# Altium schematic symbol library Schlib.SchLib: 45 symbols
Pins are listed as number, name and electrical type; pins without a type are passive.

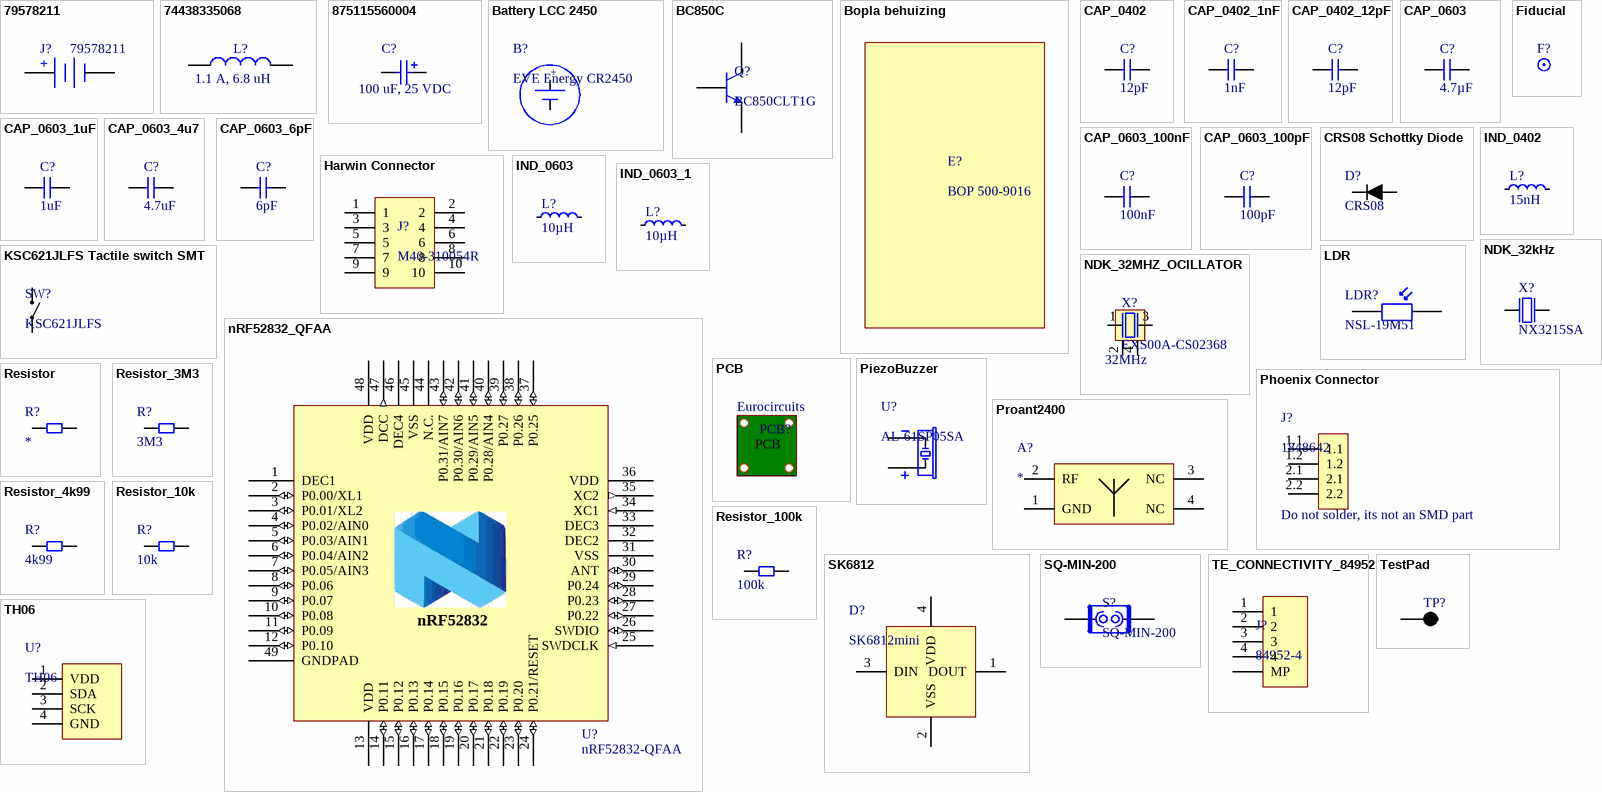
[diagram p0: symbols 79578211 to TH06]

## 79578211
designator J?
Battery Holder WA-BCPH, Battery Type: 2450p; BatteryType: 2450; Sponsor: Wurth Elektronik; PublishedDate: Nov. 2016; Publisher: Wurth Elektronik; ComponentLink1Description: Manufacturer; ComponentLink1URL: http://www.we-online.de; ComponentLink2Description: Datasheet; ComponentLink2URL: http://katalog.we-online.de/em/datasheet/79578211.pdf; Manufacturer Part Number: 79578211; value: 79578211; Manufacturer: Wurth Elektronik
footprint 79578211 (Battery Holder)
pins: 1 Pos, 2 Neg
text: +

## 74438335068
designator L?, comment 1.1 A, 6.8 uH
WE-MAPI SMD Shielded Power Inductor, size 3015, 1.1 A, 6.8 uH; Manufacturer Part Number: 74438335068; Manufacturer: Wurth Elektronik; Rated Current: 1.1 A; Inductance: 6.8 uH; DC Resistance max.: 287 mOhm; ComponentLink1Description: Manufacturer; ComponentLink1URL: http://www.we-online.de; ComponentLink2Description: Datasheet; ComponentLink2URL: http://katalog.we-online.de/pbs/datasheet/74438335068.pdf; Published Date: Nov. 2017; Publisher: Wurth Elektronik; Size: 3015; Operating Temperature: -40 to 125 degC
footprint WE-MAPI_3015
pins: 1, 2

## 875115560004
designator C?, comment 100 uF, 25 VDC
WCAP-PSHP Aluminum Polymer Capacitors, D10mm x L8.7mm, 100 uF, 25 VDC; Manufacturer Part Number: 875115560004; Manufacturer: Wurth Elektronik; Rated Voltage: 25 VDC; Capacitance: 100 uF; Value: 100uF; ComponentLink1Description: Manufacturer; ComponentLink1URL: http://www.we-online.de; ComponentLink2Description: Datasheet; ComponentLink2URL: http://katalog.we-online.de/pbs/datasheet/875115560004.pdf; Published Date: Dec. 2017; Publisher: Wurth Elektronik; Size: D10mm x L8.7mm; Life Cycle: 2000 h; Operating Temperature: -55 to +105 degC; Sponsor: Wurth Elektronik
footprint WCAP-PSHP_D10mm x L8.7mm
pins: 1 P, 2 N

## Battery LCC 2450
designator B?, comment EVE Energy CR2450
CR2450 Coin cell battery; Sponsor: Elincom electronics; Value: EVE Energy CR2450; Manufacturer: Eve Energy; Package: CR2450
text: +

## BC850C
designator Q?, comment BC850CLT1G
NPN general purpose transistor; Manufacturer: On Semiconductor; Manufacturer Part Number: NSVBC850CLT1G; value: BC850CLT1G; Supplier 1: Mouser; Supplier Part Number 1: 863-NSVBC850CLT1G; Sponsor: *
footprint SOT23 (3 Terminal surface mount package)
pins: 1, 2, 3

## Bopla behuizing
designator E?, comment BOP 500-9016  (mechanical)
Bopla ABS enclosure; Sponsor: PM Komponenten; Manufacturer: Bopla; Value: BOP 500-9016; Supplier 1: *; Supplier Part Number 1: *; Manufacturer Part Number: BOP 500-9016

## CAP_0402
designator C?, comment 12pF
Capacitor, NP0, ±2%; Part Number: C0402-12p; Note: 50V; Artikkelnr Noca: 20029159; Artikkelnr Simpro: N.A.; Manufacturer: *; Manufacturer Part Number: *; Datasheet: *; LatestRevisionDate: 2011-05-11; Pin Count: 2; Publisher: Nordic Semiconductor; Published: 2009-05-08; Value: 12pF; Supplier: *; Supplier part number: *; 2nd source Supplier: *; 2nd source part number: *; Footprint Doc: 0402
footprint CAPC1005X04L
pins: 1, 2

## CAP_0402_1nF
designator C?, comment 1nF
Capacitor 1nF 0402; Manufacturer: Murata; Manufacturer Part Number: GCM188R72A102KA37D; Sponsor: Nijkerk Electronics; Pin Count: 2; Value: 1nF
footprint CAP0402_GCx18_Murata (Murata GCx18 0402)
pins: 1, 2

## CAP_0402_12pF
designator C?, comment 12pF
Capacitor NP0 0402; Manufacturer: Murata; Manufacturer Part Number: GCM1555C1H120JA16D; Sponsor: Nijkerk Electronics; Pin Count: 2; Value: 12pF
footprint CAP0402_GCx15_Murata (Murata GCx15 0402)
pins: 1, 2

## CAP_0603
designator C?, comment 4.7µF
Capacitor, X5R, ±10%; Part Number: C0603-4µ7; Note: 6.3V; Artikkelnr Noca: 20069060; Artikkelnr Simpro: N.A.; Manufacturer: *; Manufacturer Part Number: *; Datasheet: *; LatestRevisionDate: 2009-11-23; Pin Count: 2; Publisher: Nordic Semiconductor; Published: 2009-05-08; Value: 4.7µF; Supplier: *; Supplier part number: *; 2nd source Supplier: *; 2nd source part number: *; Footprint Doc: 0603
footprint CAPC1608X06L
pins: 1, 2

## CAP_0603_1uF
designator C?, comment 1uF
Capacitor 1uF X5R 0603 Murata; Manufacturer Part Number: GRM188R61E105KA12D; Sponsor: Nijkerk Electronics; Manufacturer: Murata; Pin Count: 2; Value: 1uF
footprint CAP0603_GR18_MURATA (CAP GRM18 Murata 0603)
pins: 1, 2

## CAP_0603_4u7
designator C?, comment 4.7uF
Capacitor X5R 0603 Murata; Manufacturer Part Number: GRM188R60J475KE19D; Sponsor: Nijkerk Electronics; Manufacturer: Murata; Pin Count: 2; Value: 4.7uF
footprint CAP0603_GR18_MURATA (CAP GRM18 Murata 0603)
pins: 1, 2

## CAP_0603_6pF
designator C?, comment 6pF
Capacitor NP0 0603 50V; Part Number: GCM1885C1H6R0CA16D; Manufacturer: Murata; Sponsor: Nijkerk Electronics; Manufacturer Part Number: GCM1885C1H6R0CA16D; Pin Count: 2; Value: 6pF
footprint CAP0603_GCx18_MURATA (CAP GCx18 Murata 0603)
pins: 1, 2

## CAP_0603_100nF
designator C?, comment 100nF
Capacitor 0603 100nF; Manufacturer: Murata; Manufacturer Part Number: GCJ188R71C104KA01D; Sponsor: Nijkerk Electronics; Pin Count: 2; Value: 100nF
footprint CAP0603_GCx18_MURATA (CAP GCx18 Murata 0603)
pins: 1, 2

## CAP_0603_100pF
designator C?, comment 100pF
Capacitor 100pF 0603 NP0; Manufacturer: Murata; Manufacturer Part Number: GCM1885C1H101JA16D; Sponsor: Nijkerk Electronics; Pin Count: 2; Value: 100pF
footprint CAP0603_GCx18_MURATA (CAP GCx18 Murata 0603)
pins: 1, 2

## CRS08 Schottky Diode
designator D?, comment CRS08
CRS08 Schottky Diode; Manufacturer: Tohsiba; value: CRS08; Manufacturer Part Number: CRS08; Supplier Part Number 1: 757-CRS08(TE85R,Q,M); Supplier 1: Mouser
footprint SOD-123F (Schottky Diode)
pins: A, C

## Fiducial
designator F?  (value not drawn)  (no BOM)
value: Fiducial
footprint Fiducial (Fiducial Eurocircuits)

## Harwin Connector
designator J?, comment M40-310054R
Harwin connector 2Rows x 6 contacts M40-3100545R; Sponsor: Phoenix contacts?; value: M40-310054R; manufacturer: Harwin; Supplier 1: Mouser; Supplier Part Number 1: 855-M40-3100545R; Manufacturer Part Number: M40-310054R
footprint Harwin connector (Harwin 2 Rows x 6 Contacts 1mm pitch)
pins: 1, 2, 3, 4, 5, 6, 7, 8, 9, 10

## IND_0402
designator L?, comment 15nH
High frequency chip inductor ±10%; Part Number: L0402-15n; Manufacturer: Taiyo Yuden; Manufacturer Part Number: HK100515NJ-T; 2nd source part number: 658-1328; Artikkelnr Noca: 33029323; Artikkelnr Simpro: N.A.; LatestRevisionDate: 2012-09-19; Pin Count: 2; Publisher: Nordic Semiconductor; Published: 2010-07-12; Value: 15nH; Note: High frequency chip inductor ±10%; Supplier: Digi-Key; Datasheet: http://www.yuden.co.jp/productdata/catalog/en/mlci04_e.pdf; Supplier part number: 587-1521-1-ND; 2nd source Supplier: Farnell; Footprint Doc: 0402
footprint INDC1005X04L
pins: 1, 2

## IND_0603
designator L?, comment 10µH
Chip inductor, IDC,min = 50 mA, ±20%; Part Number: L0603-10µ; Manufacturer: Taiyo Yuden; Manufacturer Part Number: LBMF1608T100K; 2nd source part number: 178-6105; Note: LBMF1608T100K 10µH 80mA 0603; Artikkelnr Noca: 33029314; Artikkelnr Simpro: N.A.; Datasheet: http://www.yuden.co.jp/ut/product/pdf/elb2_e.pdf; LatestRevisionDate: 2012-09-19; Pin Count: 2; Publisher: Nordic Semiconductor; Published: 2010-02-24; Value: 10µH; Supplier: Digi-Key; Supplier part number: 587-1714-1-ND; 2nd source Supplier: Farnell; Footprint Doc: 0603
footprint INDC1608X06L
pins: 1, 2

## IND_0603_1
designator L?, comment 10µH
Chip inductor, IDC,min = 50 mA, ±20%; Part Number: L0603-10µ; Manufacturer: Taiyo Yuden; Manufacturer Part Number: LBMF1608T100K; 2nd source part number: 178-6105; Note: LBMF1608T100K 10µH 80mA 0603; Artikkelnr Noca: 33029314; Artikkelnr Simpro: N.A.; Datasheet: http://www.yuden.co.jp/ut/product/pdf/elb2_e.pdf; LatestRevisionDate: 2012-09-19; Pin Count: 2; Publisher: Nordic Semiconductor; Published: 2010-02-24; Value: 10µH; Supplier: Digi-Key; Supplier part number: 587-1714-1-ND; 2nd source Supplier: Farnell; Footprint Doc: 0603
footprint INDC1608X06L
pins: 1, 2

## KSC621JLFS Tactile switch SMT
designator SW?, comment KSC621JLFS
Tactile switch SMT; Manufacturer: C & K Components; Value: KSC621JLFS; Manufacturer Part Number: KSC621JLFS; Sponsor: *; Remark: *; Supplier 1: Farnell; Supplier Part Number 1: 2320054
footprint KSC621JLFS (KSC621JLFS Sealed Tactile Switch SMT)
pins: 1, 2, 3, 4

## LDR
designator LDR?, comment NSL-19M51
Light Dependant Resistor Phot; Manufacturer: Luna Optoelectronics; value: NSL-19M51; Supplier 1: Farnell; Supplier 2: Digi-Key; Supplier Part Number 1: 3168335; Supplier Part Number 2: NSL-19M51-ND; Manufacturer Part Number: NSL-19M51; Sponsor: *
footprint LDR (LDR THT footprint)
pins: 1, 2

## NDK_32kHz
designator X?, comment NX3215SA
XTAL SMD 3215, 32.768kHz, Cl=9pF, Total Tol: ±50ppm; Part Number: XTAL_FC-135 32.768k; Manufacturer: NDK; Manufacturer Part Number: NX3215SA 32.768KHz EXS00A-MU00376; Note: XTAL SMD 32.768kHz, 3215; Frequency: 32kHz; Pin Count: 2; Value: NX3215SA; Sponsor: NDK; Supplier 1: Digi-Key; Supplier Part Number 1: 644-1171-1-ND
footprint XTAL_3215
pins: 1 inp, 2 out

## NDK_32MHZ_OCILLATOR
designator X?, comment EXS00A-CS02368  Frequency: 32MHz
NDK  NX3225SA 32MHz Oscillator; Note: XTAL SMD 32.000MHz; Manufacturer: NDK; Manufacturer Part Number: NX3225SA; Pin Count: 4; Value: EXS00A-CS02368; Footprint Doc: XTAL_2016; Sponsor: NDK; Supplier 1: Digi-Key; Supplier Part Number 1: 644-1208-1-ND
footprint NDK-32MHz-XTAL (NDK NX3225SA)
pins: 1 inp, 2 GND, 3 out, 4 GND

## nRF52832_QFAA
designator U?, comment nRF52832-QFAA
Multi-protocol Bluetooth Low Energy, ANT and 2.4GHz proprietary system-on-chip; Manufacturer: Nordic Semiconductor; Part Number: nRF52832-QFAA; Manufacturer Part Number: nRF52832-QFAA; LatestRevisionDate: 2014-11-26; Pin Count: 48; Publisher: Nordic Semiconductor; Published: 2014-11-26; Value: nRF52832-QFAA; Supplier part number: nRF52832-QFAA; Footprint Doc: QFN-48; Remark: *; Supplier: Nordic Semiconductor; Sponsor: Nordic Semiconductor
footprint QFN40P600X600X90-48N
pins: 1 DEC1 (power), 2 P0.00/XL1 (io), 3 P0.01/XL2 (io), 4 P0.02/AIN0 (io), 5 P0.03/AIN1 (io), 6 P0.04/AIN2 (io), 7 P0.05/AIN3 (io), 8 P0.06 (io), 9 P0.07 (io), 10 P0.08 (io), 11 P0.09 (io), 12 P0.10 (io), 13 VDD (power), 14 P0.11 (io), 15 P0.12 (io), 16 P0.13 (io), 17 P0.14 (io), 18 P0.15 (io), 19 P0.16 (io), 20 P0.17 (io), 21 P0.18 (io), 22 P0.19 (io), 23 P0.20 (io), 24 P0.21/RESET (io), 25 SWDCLK (in), 26 SWDIO (io), 27 P0.22 (io), 28 P0.23 (io), 29 P0.24 (io), 30 ANT (io), 31 VSS (power), 32 DEC2 (power), 33 DEC3 (power), 34 XC1 (in), 35 XC2 (out), 36 VDD (power), 37 P0.25 (io), 38 P0.26 (io), 39 P0.27 (io), 40 P0.28/AIN4 (io), 41 P0.29/AIN5 (io), 42 P0.30/AIN6 (io), 43 P0.31/AIN7 (io), 44 N.C. (power), 45 VSS (power), 46 DEC4 (power), 47 DCC (out), 48 VDD (power), 49 GNDPAD (power)
text: nRF52832

## PCB
designator PCB?  (value not drawn)  (mechanical)
Eurocircuits; Sponsor: Eurocircuits

## Phoenix Connector
designator J?, comment 1848642  Remark: Do not solder, its not an SMD part
Plug component, Push-in spring connection; Manufacturer: Phoenix Contact; value: 1848642; Supplier 1: Digi-Key; Supplier 2: Mouser; Supplier Part Number 1: 277-12224-ND; Supplier Part Number 2: 651-1848642; Manufacturer Part Number: 1848642
footprint Phoenix 1848642 (Phoenix Contact plug in connector)
footprint Phoenix 1848642 without 3D model (Phoenix Contact plug in connector)
pins: 1.1, 1.2, 2.1, 2.2

## PiezoBuzzer
designator U?, comment AL-61SP05SA
Piezo Buzzer; Manufacturer: EKULIT; Sponsor: Elincom Electronics; Value: AL-61SP05SA; Manufacturer Part Number: AL-61SP05SA
footprint Buzzer - AL-61SP05SA (KXG1205 buzzer footprint)
pins: 1, 2

## Proant2400
designator A?
Onboard SMD 2400 MHz Antenna for BLE, WLAN/Wifi; Manufacturer: Proant; Manufacturer Part Number: PRO-OB-440; value: Proant2400; Supplier 1: Digi-Key; Supplier 2: Digi-Key; Supplier Part Number 1: 1532-1001-6-ND; Supplier Part Number 2: 1532-1001-2-ND
footprint Proant2400 (Proant 2400, 2.4GHz antenna)
pins: 1 GND, 2 RF, 3 NC, 4 NC

## Resistor
designator R?
SMD Resistor; Value: *; Manufacturer: *; Manufacturer Part Number: *; Supplier 1: *; Supplier Part Number 1: *; Sponsor: *; Remark: *
footprint RES0603VISHAY (Chip Resistor, 2-Leads, Vishay 0603INCH)
pins: 1, 2

## Resistor_3M3
designator R?, comment 3M3
SMD Resistor 3M3 0603; Manufacturer: Vishay; Manufacturer Part Number: CRCW06033M30FKTABC; Sponsor: MyProto - DVC; Value: 3M3; Supplier 1: *; Supplier Part Number 1: *; Remark: *
footprint RES0603VISHAY (Chip Resistor, 2-Leads, Vishay 0603INCH)
pins: 1, 2

## Resistor_4k99
designator R?, comment 4k99
SMD Resistor 4k99 0603; Manufacturer: Vishay; Manufacturer Part Number: CRCW06034K99FKTABC; Sponsor: MyProto - DVC; Value: 4k99; Supplier 1: *; Supplier Part Number 1: *; Remark: *
footprint RES0603VISHAY (Chip Resistor, 2-Leads, Vishay 0603INCH)
pins: 1, 2

## Resistor_10k
designator R?, comment 10k
SMD Resistor 10k 0603; Manufacturer: Vishay; Manufacturer Part Number: CRCW060310K0FKTABC; Sponsor: MyProto - DVC; Value: 10k; Supplier 1: *; Supplier Part Number 1: *; Remark: *
footprint RES0603VISHAY (Chip Resistor, 2-Leads, Vishay 0603INCH)
pins: 1, 2

## Resistor_100k
designator R?, comment 100k
SMD Resistor 100k 0603; Manufacturer: Vishay; Manufacturer Part Number: CRCW0603100KFKTABC; Sponsor: MyProto - DVC; Value: 100k; Supplier 1: *; Supplier Part Number 1: *; Remark: *
footprint RES0603VISHAY (Chip Resistor, 2-Leads, Vishay 0603INCH)
pins: 1, 2

## SK6812
designator D?, comment SK6812mini
RGB LED with integrated controller; Manufacturer: Dongguang opsco optoelectronics CO. LTD; value: SK6812mini; Manufacturer Part Number: *; Sponsor: *
footprint SK6812mini (SK6812mini RGB LED)
pins: 1 DOUT, 2 VSS, 3 DIN, 4 VDD

## SQ-MIN-200
designator S?
Nano Power Tilt and Vibration sensor; Manufacturer: SignalQuest; Sponsor: Ideetron; value: SQ-MIN-200; Manufacturer Part Number: SQ-MIN-200
footprint SQ-SEN-200 (Nano power Tilt and Vibration Sensor)
pins: 1, 2

## TE_CONNECTIVITY_84952
designator J?, comment 84952-4
SMT ZIF connector 4; Manufacturer: TE Connectivity; Value: 84952-4; Manufacturer Part Number: 84952-4; Sponsor: *; Remark: *; Supplier 1: Farnell; Supplier Part Number 1: 1245267
footprint 84952-4 (84952-4 SMD ZIF connector)
pins: 1, 2, 3, 4, MP

## TestPad
designator TP?, comment testpad  (value not drawn)  (no BOM)
Signal probe pad; value: testpad
footprint TestPad (TestPad 1.2mm)
pins: 1

## TH06
designator U?
I2C Humidity and Temperature Sensor module; Manufacturer: HopeRF; value: TH06; supplier: Ideetron; Manufacturer Part Number: TH06
footprint TH06_module (TH06 Humidity and Temperature Module)
pins: 1 VDD, 2 SDA, 3 SCK, 4 GND

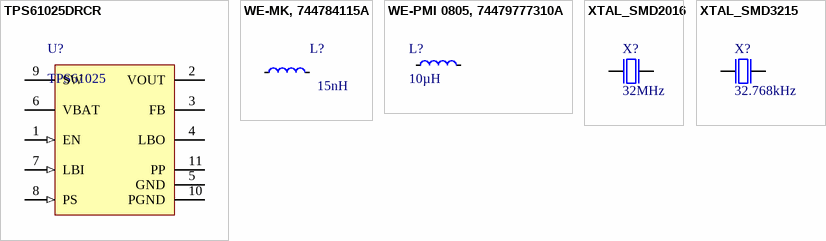
[diagram p1: symbols TPS61025DRCR to XTAL_SMD3215]

## TPS61025DRCR
designator U?, comment TPS61025
Boost Voltage Converter with 0.9 to 6.5 V Input, -40 to 85 degC, 10-Pin SON (DRC), Green (RoHS & no Sb/Br); Manufacturer: Texas Instruments; Manufacturer Part Number: TPS61025DRCR; Preset Vout(V): 3.3; Regulated Outputs(#): 1; SubFamily: Step-Up Regulator; Switching Frequency(Max)(kHz): 720; Synchronous Rectification: TRUE; Vin(Max)(V): 6.5; Vin(Min)(V): 0.9; DatasheetVersion: SLVS451F; PackageVersion: revL, Sep-2011; PackageReference: DRC10-2400X1650TP; PackageDescription: 10-Pin Plastic Small Outline No-Lead, 3 x 3 x 1 mm Body, 0.5 mm Pitch, Exposed Pad; Supplier 1: Digi-Key; Supplier Part Number 1: 296-15844-2-ND; Supplier 2: Digi-Key; Supplier Part Number 2: 296-15844-1-ND; Supplier 3: Digi-Key; Supplier Part Number 3: 296-15844-6-ND; Supplier 4: Farnell; Supplier Part Number 4: 1703402; Supplier 5: Newark; Supplier Part Number 5: 87H2896; Supplier 6: Mouser; Supplier Part Number 6: 595-TPS61025DRCR; Eco-Plan: Green (RoHS & no Sb/Br); Topology: Boost; Mounting Technology: Surface Mount; ComponentLink1Description: Datasheet; ComponentLink1URL: http://www.ti.com/general/docs/lit/getliterature.tsp?genericPartNumber=TPS61025&fileType=pdf; ComponentLink2Description: Package Specification; ComponentLink2URL: http://www.ti.com/litv/pdf/mpds117k; value: TPS61025
footprint DRC10-2400X1650TP (SON, 10-Leads, Body 3x3mm, Pitch 0.5mm, Thermal Pad 2.4x1.65mm, TI Recommended)
pins: 1 EN (in) "Enable input. (1/VBAT enabled, 0/GND disabled)", 2 VOUT (power) "Boost converter output", 3 FB "Voltage feedback of adjustable versions", 4 LBO (hiz) "Low battery comparator output (open drain)", 5 GND (power) "Control / logic ground", 6 VBAT (power) "Supply voltage", 7 LBI (in) "Low battery comparator input (comparator enabled with EN), may not be left floating, should be connected to GND or VBAT if comparator is not used", 8 PS (in) "Enable/disable power save mode (1/VBAT disabled, 0/GND enabled)", 9 SW (power) "Boost and rectifying switch input", 10 PGND (power) "Power ground", 11 PP (power) "Must be soldered to achieve appropriate power dissipation. Should be connected to PGND."

## WE-MK, 744784115A
designator L?, comment 15nH
WE-MK Multilayer Ceramic SMD Inductor, size 0402A, 15nH; PartNumber: 744784115A; Manufacturer: Wurth Elektronik; PublishedDate: Sep. 2016; Publisher: Wurth Elektronik; ComponentLink1Description: Manufacturer; ComponentLink1URL: http://www.we-online.de; ComponentLink2Description: Datasheet; ComponentLink2URL: http://katalog.we-online.de/pbs/datasheet/744784115A.pdf; Size: 0402A; Value: 15nH; Manufacturer Part Number: 744784115A
footprint WE-MK_0402A
pins: 1, 2

## WE-PMI 0805, 74479777310A
designator L?, comment 10µH
WE-PMI Power Multilayer Inductor, L= 10.0µH; partNo: 74479777310A; Manufacturer: Wurth Elektronik; Inductance: 10.0µH; ComponentLink1Description: Manufacturer; ComponentLink1URL: http://www.we-online.de; Created by: Baojun Chen; Created Date: Dec.2015; ComponentLink2Description: Datasheet; ComponentLink2URL: http://katalog.we-online.de/pbs/datasheet/74479777310A.pdf; Sponsor: Wurth Elektronik; Value: 10µH; Manufacturer Part Number: 74479777310A
footprint 74479777xxx_0805
pins: 1, 2

## XTAL_SMD2016
designator X?, comment 32MHz
XTAL SMD 2016, 32MHz, Cl=8pF, Total Tol: ±40ppm; Part Number: XTAL_SMD2016_32MHz_8pF_Epson; Manufacturer: Epson Toyocom; Manufacturer Part Number: Q22FA12800025; Note: XTAL SMD 32.000MHz; Artikkelnr Noca: N.A.; Datasheet: http://www.epsondevice.com/docs/qd/en/DownloadServlet?id=ID000449; LatestRevisionDate: 2014-11-27; Pin Count: 4; Publisher: Nordic Semiconductor; Published: 2012-03-09; Value: 32MHz; Supplier: Farnell; Supplier part number: 171-2806; 2nd source Supplier: *; 2nd source part number: *; Footprint Doc: XTAL_2016; Artikkelnr Simpro: N.A.
footprint BT-XTAL_2016
pins: 1 inp, 2 GND hidden to GND, 3 out, 4 GND hidden to GND

## XTAL_SMD3215
designator X?, comment 32.768kHz
XTAL SMD 3215, 32.768kHz, Cl=9pF, Total Tol: ±50ppm; Part Number: XTAL_FC-135 32.768k; Manufacturer: NDK; Manufacturer Part Number: NX3215SA 32.768KHz EXS00A-MU00376; Note: XTAL SMD 32.768kHz, 3215; Pin Count: 2; Value: 32.768kHz; Sponsor: NDK; Supplier 1: Digi-Key; Supplier Part Number 1: 644-1171-1-ND
footprint XTAL_3215
pins: 1 inp, 2 out